# EAGLE library part IS43LR16160F-6BLI (library DLP_TI)
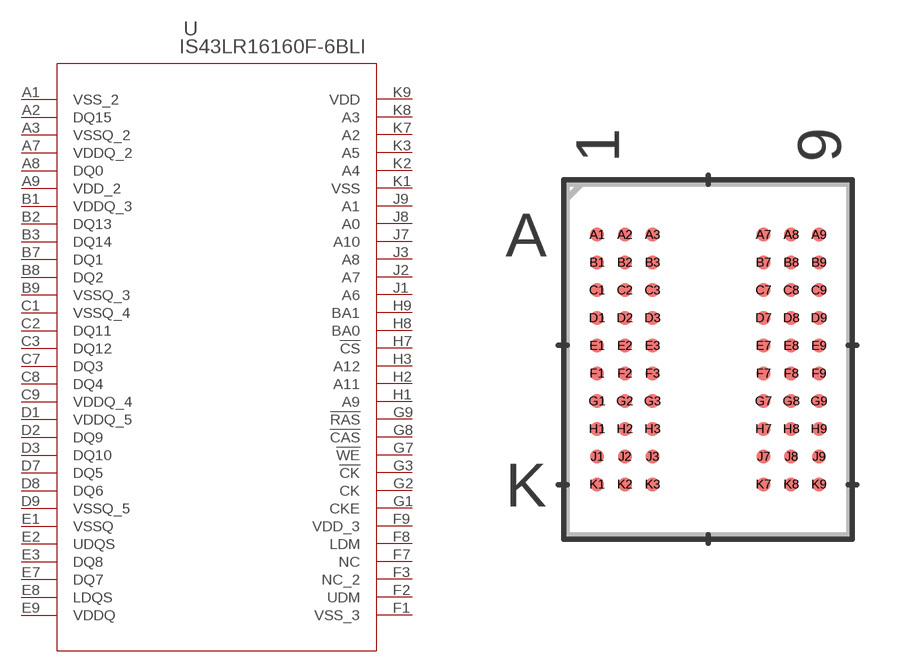
[diagram p2: symbol with the pads of TFBGA-60_8X10_ISI; footprint TFBGA-60_8X10_ISI]

Designator prefix U

## IS43LR16160F-6BLI (COPYRIGHT: Copyright (C) 2021 Ultra Librarian. All rights reserved.; MANUFACTURER_PART_NUMBER: IS43LR16160F-6BLI; MFR_NAME: ISSI)  [TFBGA-60_8X10_ISI]
A1  VSS_2  pwr
A2  DQ15
A3  VSSQ_2  pwr
A7  VDDQ_2  pwr
A8  DQ0
A9  VDD_2  pwr
B1  VDDQ_3  pwr
B2  DQ13
B3  DQ14
B7  DQ1
B8  DQ2
B9  VSSQ_3  pwr
C1  VSSQ_4  pwr
C2  DQ11
C3  DQ12
C7  DQ3
C8  DQ4
C9  VDDQ_4  pwr
D1  VDDQ_5  pwr
D2  DQ9
D3  DQ10
D7  DQ5
D8  DQ6
D9  VSSQ_5  pwr
E1  VSSQ  pwr
E2  UDQS
E3  DQ8
E7  DQ7
E8  LDQS
E9  VDDQ  pwr
F1  VSS_3  pwr
F2  UDM  in
F3  NC_2  nc
F7  NC  nc
F8  LDM  in
F9  VDD_3  pwr
G1  CKE  in
G2  CK  in
G3  !CK  in
G7  !WE  in
G8  !CAS  in
G9  !RAS  in
H1  A9  in
H2  A11  in
H3  A12  in
H7  !CS  in
H8  BA0  in
H9  BA1  in
J1  A6  in
J2  A7  in
J3  A8  in
J7  A10  in
J8  A0  in
J9  A1  in
K1  VSS  pwr
K2  A4  in
K3  A5  in
K7  A2  in
K8  A3  in
K9  VDD  pwr

## Footprint TFBGA-60_8X10_ISI (pad centres in mm)
smd 0.406 x 0.406: A1 -3.2,3.6; A2 -2.4,3.6; A3 -1.6,3.6; A7 1.6,3.6; A8 2.4,3.6; A9 3.2,3.6; B1 -3.2,2.8; B2 -2.4,2.8; B3 -1.6,2.8; B7 1.6,2.8; B8 2.4,2.8; B9 3.2,2.8; C1 -3.2,2; C2 -2.4,2; C3 -1.6,2; C7 1.6,2; C8 2.4,2; C9 3.2,2; D1 -3.2,1.2; D2 -2.4,1.2; D3 -1.6,1.2; D7 1.6,1.2; D8 2.4,1.2; D9 3.2,1.2; E1 -3.2,0.4; E2 -2.4,0.4; E3 -1.6,0.4; E7 1.6,0.4; E8 2.4,0.4; E9 3.2,0.4; F1 -3.2,-0.4; F2 -2.4,-0.4; F3 -1.6,-0.4; F7 1.6,-0.4; F8 2.4,-0.4; F9 3.2,-0.4; G1 -3.2,-1.2; G2 -2.4,-1.2; G3 -1.6,-1.2; G7 1.6,-1.2; G8 2.4,-1.2; G9 3.2,-1.2; H1 -3.2,-2; H2 -2.4,-2; H3 -1.6,-2; H7 1.6,-2; H8 2.4,-2; H9 3.2,-2; J1 -3.2,-2.8; J2 -2.4,-2.8; J3 -1.6,-2.8; J7 1.6,-2.8; J8 2.4,-2.8; J9 3.2,-2.8; K1 -3.2,-3.6; K2 -2.4,-3.6; K3 -1.6,-3.6; K7 1.6,-3.6; K8 2.4,-3.6; K9 3.2,-3.6